# EAGLE library part ICM-20948 (library MTAES_V2_UniqueParts)
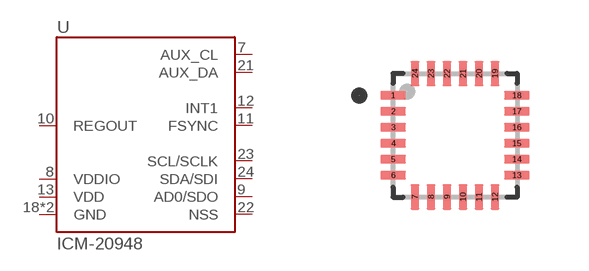
[diagram p3: symbol with the pads of QFN24_3X3; footprint QFN24_3X3]

Designator prefix -

## ICM-20948  [QFN24_3X3]
7  AUX_CL
8  VDDIO
9  AD0/SDO
10  REGOUT
11  FSYNC
12  INT1
13  VDD
18  GND
20  GND
21  AUX_DA
22  NSS
23  SCL/SCLK
24  SDA/SDI

## Footprint QFN24_3X3 (pad centres in mm)
smd 0.64 x 0.22: 1 -1.545,1; 2 -1.545,0.6; 3 -1.545,0.2; 4 -1.545,-0.2; 5 -1.545,-0.6; 6 -1.545,-1; 13 1.545,-1; 14 1.545,-0.6; 15 1.545,-0.2; 16 1.545,0.2; 17 1.545,0.6; 18 1.545,1
smd 0.22 x 0.64: 7 -1,-1.545; 8 -0.6,-1.545; 9 -0.2,-1.545; 10 0.2,-1.545; 11 0.6,-1.545; 12 1,-1.545; 19 1,1.545; 20 0.6,1.545; 21 0.2,1.545; 22 -0.2,1.545; 23 -0.6,1.545; 24 -1,1.545